# EAGLE library part GTL2002DP,118 (library OUTech)
Convertisseur niveaux logique 2 channels Source: Datasheet <http://cache.nxp.com/documents/data_sheet/GTL2002.pdf>
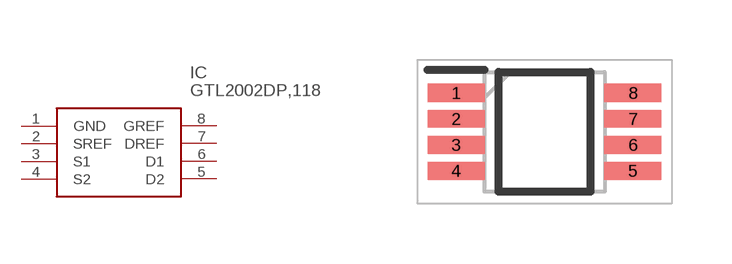
[diagram p2: symbol with the pads of SOP65P490X110-8N; footprint SOP65P490X110-8N]

Designator prefix IC

## GTL2002DP,118 (DESCRIPTION: 2b Bi-Direct Lo-V translator,GTL2002D GTL2002DP,118, 2-Bit Voltage Level Translator, GTL, Open Drain 0 ??? 5.5 V 8-Pin TSSOP; HEIGHT: 1.1mm; MANUFACTURER_NAME: Nexperia; MANUFACTURER_PART_NUMBER: GTL2002DP,118; MOUSER_PART_NUMBER: 771-GTL2002DP-T; MOUSER_PRICE-STOCK: https://www.mouser.com/Search/Refine.aspx?Keyword=771-GTL2002DP-T; RS_PART_NUMBER: 0510611; RS_PRICE-STOCK: http://uk.rs-online.com/web/p/products/0510611)  [SOP65P490X110-8N]
1  GND  pwr
2  SREF  in
3  S1
4  S2
5  D2
6  D1
7  DREF  in
8  GREF  in

## Footprint SOP65P490X110-8N (pad centres in mm)
NXP TSSOP8
smd 1.425 x 0.45: 1 -2.212,0.975; 2 -2.212,0.325; 3 -2.212,-0.325; 4 -2.212,-0.975; 5 2.212,-0.975; 6 2.212,-0.325; 7 2.212,0.325; 8 2.212,0.975